# Altium schematic symbol library WE-LQSH.SchLib: 28 symbols
Pins are listed as number, name and electrical type; pins without a type are passive.

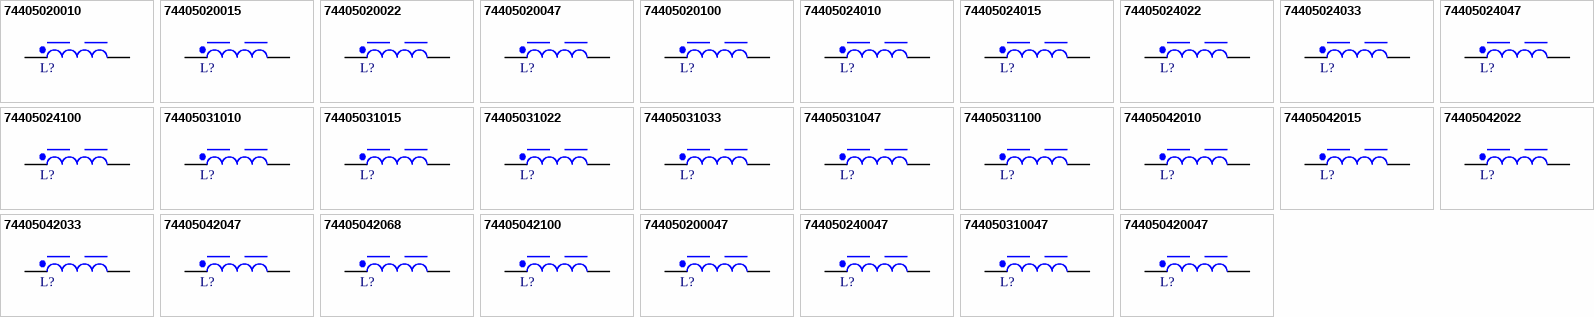
[diagram p0: symbols 74405020010 to 744050420047]

## 74405020010
designator L?, comment 1µH, 1.65A  (value not drawn)
WE-LQSH SMT High Saturation Power Inductor, size 2010, 1µH, 1.65A, 90mΩ; Manufacturer Part Number: 74405020010; Manufacturer: Wurth Elektronik; Case/Size Code: 2010; DC Resistance: 75mΩ; Peak Voltage: 25V; Saturation Current: 3.85A; Self Resonant Frequency: 84MHz; Category: Shielded Power Inductors; Match Code: WE-LQSH; ComponentLink1Description: Website Link; ComponentLink1URL: https://www.we-online.com/redexpert/article/74405020010?ad; ComponentLink2Description: Datasheet Link; ComponentLink2URL: https://www.we-online.com/redexpert/spec/74405020010?ad; Mount: Surface Mount; Operating Temperature Max: 125°C; Operating Temperature Min: -40°C; Packaging: Tape and Reel; Length: 2mm; Width: 1.6mm; Height: 1mm; DC Resistance Max: 90mΩ; Inductance: 1µH; Rated Current: 1.65A
footprint WE-LQSH_2010
simulation model 2010_74405020010_1u
pins: 1, 2

## 74405020015
designator L?, comment 1.5µH, 1.4A  (value not drawn)
WE-LQSH SMT High Saturation Power Inductor, size 2010, 1.5µH, 1.4A, 132mΩ; Manufacturer Part Number: 74405020015; Manufacturer: Wurth Elektronik; Case/Size Code: 2010; DC Resistance: 110mΩ; Peak Voltage: 25V; Saturation Current: 2.3A; Self Resonant Frequency: 74MHz; Category: Shielded Power Inductors; Match Code: WE-LQSH; ComponentLink1Description: Website Link; ComponentLink1URL: https://www.we-online.com/redexpert/article/74405020015?ad; ComponentLink2Description: Datasheet Link; ComponentLink2URL: https://www.we-online.com/redexpert/spec/74405020015?ad; Mount: Surface Mount; Operating Temperature Max: 125°C; Operating Temperature Min: -40°C; Packaging: Tape and Reel; Length: 2mm; Width: 1.6mm; Height: 1mm; DC Resistance Max: 132mΩ; Inductance: 1.5µH; Rated Current: 1.4A
footprint WE-LQSH_2010
simulation model 2010_74405020015_1.5u
pins: 1, 2

## 74405020022
designator L?, comment 2.2µH, 1.25A  (value not drawn)
WE-LQSH SMT High Saturation Power Inductor, size 2010, 2.2µH, 1.25A, 170mΩ; Manufacturer Part Number: 74405020022; Manufacturer: Wurth Elektronik; Case/Size Code: 2010; DC Resistance: 142mΩ; Peak Voltage: 25V; Saturation Current: 2.15A; Self Resonant Frequency: 53MHz; Category: Shielded Power Inductors; Match Code: WE-LQSH; ComponentLink1Description: Website Link; ComponentLink1URL: https://www.we-online.com/redexpert/article/74405020022?ad; ComponentLink2Description: Datasheet Link; ComponentLink2URL: https://www.we-online.com/redexpert/spec/74405020022?ad; Mount: Surface Mount; Operating Temperature Max: 125°C; Operating Temperature Min: -40°C; Packaging: Tape and Reel; Length: 2mm; Width: 1.6mm; Height: 1mm; DC Resistance Max: 170mΩ; Inductance: 2.2µH; Rated Current: 1.25A
footprint WE-LQSH_2010
simulation model 2010_74405020022_2.5u
pins: 1, 2

## 74405020047
designator L?, comment 4.7µH, 0.8A  (value not drawn)
WE-LQSH SMT High Saturation Power Inductor, size 2010, 4.7µH, 0.8A, 444mΩ; Manufacturer Part Number: 74405020047; Manufacturer: Wurth Elektronik; Case/Size Code: 2010; DC Resistance: 370mΩ; Peak Voltage: 25V; Saturation Current: 1.5A; Self Resonant Frequency: 35MHz; Category: Shielded Power Inductors; Match Code: WE-LQSH; ComponentLink1Description: Website Link; ComponentLink1URL: https://www.we-online.com/redexpert/article/74405020047?ad; ComponentLink2Description: Datasheet Link; ComponentLink2URL: https://www.we-online.com/redexpert/spec/74405020047?ad; Mount: Surface Mount; Operating Temperature Max: 125°C; Operating Temperature Min: -40°C; Packaging: Tape and Reel; Length: 2mm; Width: 1.6mm; Height: 1mm; DC Resistance Max: 444mΩ; Inductance: 4.7µH; Rated Current: 0.8A
footprint WE-LQSH_2010
simulation model 2010_74405020047_4.7u
pins: 1, 2

## 74405020100
designator L?, comment 10µH, 0.58A  (value not drawn)
WE-LQSH SMT High Saturation Power Inductor, size 2010, 10µH, 0.58A, 816mΩ; Manufacturer Part Number: 74405020100; Manufacturer: Wurth Elektronik; Case/Size Code: 2010; DC Resistance: 680mΩ; Peak Voltage: 25V; Saturation Current: 0.95A; Self Resonant Frequency: 22MHz; Category: Shielded Power Inductors; Match Code: WE-LQSH; ComponentLink1Description: Website Link; ComponentLink1URL: https://www.we-online.com/redexpert/article/74405020100?ad; ComponentLink2Description: Datasheet Link; ComponentLink2URL: https://www.we-online.com/redexpert/spec/74405020100?ad; Mount: Surface Mount; Operating Temperature Max: 125°C; Operating Temperature Min: -40°C; Packaging: Tape and Reel; Length: 2mm; Width: 1.6mm; Height: 1mm; DC Resistance Max: 816mΩ; Inductance: 10µH; Rated Current: 0.58A
footprint WE-LQSH_2010
simulation model 2010_74405020100_10u
pins: 1, 2

## 74405024010
designator L?, comment 1µH, 2.35A  (value not drawn)
WE-LQSH SMT High Saturation Power Inductor, size 2512, 1µH, 2.35A, 58mΩ; Manufacturer Part Number: 74405024010; Manufacturer: Wurth Elektronik; Case/Size Code: 2512; DC Resistance: 48mΩ; Peak Voltage: 25V; Saturation Current: 4.2A; Self Resonant Frequency: 87MHz; Category: Shielded Power Inductors; Match Code: WE-LQSH; ComponentLink1Description: Website Link; ComponentLink1URL: https://www.we-online.com/redexpert/article/74405024010?ad; ComponentLink2Description: Datasheet Link; ComponentLink2URL: https://www.we-online.com/redexpert/spec/74405024010?ad; Mount: Surface Mount; Operating Temperature Max: 125°C; Operating Temperature Min: -40°C; Packaging: Tape and Reel; Length: 2.5mm; Width: 2mm; Height: 1.2mm; DC Resistance Max: 58mΩ; Inductance: 1µH; Rated Current: 2.35A
footprint WE-LQSH_2512
simulation model 2512_74405024010_1u
pins: 1, 2

## 74405024015
designator L?, comment 1.5µH, 2.1A  (value not drawn)
WE-LQSH SMT High Saturation Power Inductor, size 2512, 1.5µH, 2.1A, 72mΩ; Manufacturer Part Number: 74405024015; Manufacturer: Wurth Elektronik; Case/Size Code: 2512; DC Resistance: 60mΩ; Peak Voltage: 25V; Saturation Current: 3.5A; Self Resonant Frequency: 68MHz; Category: Shielded Power Inductors; Match Code: WE-LQSH; ComponentLink1Description: Website Link; ComponentLink1URL: https://www.we-online.com/redexpert/article/74405024015?ad; ComponentLink2Description: Datasheet Link; ComponentLink2URL: https://www.we-online.com/redexpert/spec/74405024015?ad; Mount: Surface Mount; Operating Temperature Max: 125°C; Operating Temperature Min: -40°C; Packaging: Tape and Reel; Length: 2.5mm; Width: 2mm; Height: 1.2mm; DC Resistance Max: 72mΩ; Inductance: 1.5µH; Rated Current: 2.1A
footprint WE-LQSH_2512
simulation model 2512_74405024015_1.5u
pins: 1, 2

## 74405024022
designator L?, comment 2.2µH, 1.6A  (value not drawn)
WE-LQSH SMT High Saturation Power Inductor, size 2512, 2.2µH, 1.6A, 120mΩ; Manufacturer Part Number: 74405024022; Manufacturer: Wurth Elektronik; Case/Size Code: 2512; DC Resistance: 100mΩ; Peak Voltage: 25V; Saturation Current: 3A; Self Resonant Frequency: 46MHz; Category: Shielded Power Inductors; Match Code: WE-LQSH; ComponentLink1Description: Website Link; ComponentLink1URL: https://www.we-online.com/redexpert/article/74405024022?ad; ComponentLink2Description: Datasheet Link; ComponentLink2URL: https://www.we-online.com/redexpert/spec/74405024022?ad; Mount: Surface Mount; Operating Temperature Max: 125°C; Operating Temperature Min: -40°C; Packaging: Tape and Reel; Length: 2.5mm; Width: 2mm; Height: 1.2mm; DC Resistance Max: 120mΩ; Inductance: 2.2µH; Rated Current: 1.6A
footprint WE-LQSH_2512
simulation model 2512_74405024022_2.2u
pins: 1, 2

## 74405024033
designator L?, comment 3.3µH, 1.3A  (value not drawn)
WE-LQSH SMT High Saturation Power Inductor, size 2512, 3.3µH, 1.3A, 163mΩ; Manufacturer Part Number: 74405024033; Manufacturer: Wurth Elektronik; Case/Size Code: 2512; DC Resistance: 136mΩ; Peak Voltage: 25V; Saturation Current: 2.1A; Self Resonant Frequency: 37MHz; Category: Shielded Power Inductors; Match Code: WE-LQSH; ComponentLink1Description: Website Link; ComponentLink1URL: https://www.we-online.com/redexpert/article/74405024033?ad; ComponentLink2Description: Datasheet Link; ComponentLink2URL: https://www.we-online.com/redexpert/spec/74405024033?ad; Mount: Surface Mount; Operating Temperature Max: 125°C; Operating Temperature Min: -40°C; Packaging: Tape and Reel; Length: 2.5mm; Width: 2mm; Height: 1.2mm; DC Resistance Max: 163mΩ; Inductance: 3.3µH; Rated Current: 1.3A
footprint WE-LQSH_2512
simulation model 2512_74405024033_3.3u
pins: 1, 2

## 74405024047
designator L?, comment 4.7µH, 1A  (value not drawn)
WE-LQSH SMT High Saturation Power Inductor, size 2512, 4.7µH, 1A, 270mΩ; Manufacturer Part Number: 74405024047; Manufacturer: Wurth Elektronik; Case/Size Code: 2512; DC Resistance: 225mΩ; Peak Voltage: 25V; Saturation Current: 1.9A; Self Resonant Frequency: 30MHz; Category: Shielded Power Inductors; Match Code: WE-LQSH; ComponentLink1Description: Website Link; ComponentLink1URL: https://www.we-online.com/redexpert/article/74405024047?ad; ComponentLink2Description: Datasheet Link; ComponentLink2URL: https://www.we-online.com/redexpert/spec/74405024047?ad; Mount: Surface Mount; Operating Temperature Max: 125°C; Operating Temperature Min: -40°C; Packaging: Tape and Reel; Length: 2.5mm; Width: 2mm; Height: 1.2mm; DC Resistance Max: 270mΩ; Inductance: 4.7µH; Rated Current: 1A
footprint WE-LQSH_2512
simulation model 2512_74405024047_4.7u
pins: 1, 2

## 74405024100
designator L?, comment 10µH, 0.8A  (value not drawn)
WE-LQSH SMT High Saturation Power Inductor, size 2512, 10µH, 0.8A, 522mΩ; Manufacturer Part Number: 74405024100; Manufacturer: Wurth Elektronik; Case/Size Code: 2512; DC Resistance: 435mΩ; Peak Voltage: 25V; Saturation Current: 1.2A; Self Resonant Frequency: 20MHz; Category: Shielded Power Inductors; Match Code: WE-LQSH; ComponentLink1Description: Website Link; ComponentLink1URL: https://www.we-online.com/redexpert/article/74405024100?ad; ComponentLink2Description: Datasheet Link; ComponentLink2URL: https://www.we-online.com/redexpert/spec/74405024100?ad; Mount: Surface Mount; Operating Temperature Max: 125°C; Operating Temperature Min: -40°C; Packaging: Tape and Reel; Length: 2.5mm; Width: 2mm; Height: 1.2mm; DC Resistance Max: 522mΩ; Inductance: 10µH; Rated Current: 0.8A
footprint WE-LQSH_2512
simulation model 2512_74405024100_10u
pins: 1, 2

## 74405031010
designator L?, comment 1µH, 2.4A  (value not drawn)
WE-LQSH SMT High Saturation Power Inductor, size 3012, 1µH, 2.4A, 54mΩ; Manufacturer Part Number: 74405031010; Manufacturer: Wurth Elektronik; Case/Size Code: 3012; DC Resistance: 45mΩ; Peak Voltage: 25V; Saturation Current: 5.4A; Self Resonant Frequency: 66MHz; Category: Shielded Power Inductors; Match Code: WE-LQSH; ComponentLink1Description: Website Link; ComponentLink1URL: https://www.we-online.com/redexpert/article/74405031010?ad; ComponentLink2Description: Datasheet Link; ComponentLink2URL: https://www.we-online.com/redexpert/spec/74405031010?ad; Mount: Surface Mount; Operating Temperature Max: 125°C; Operating Temperature Min: -40°C; Packaging: Tape and Reel; Length: 3mm; Width: 3mm; Height: 1.2mm; DC Resistance Max: 54mΩ; Inductance: 1µH; Rated Current: 2.4A
footprint WE-LQSH_3012
simulation model 3012_74405031010_1u
pins: 1, 2

## 74405031015
designator L?, comment 1.5µH, 2.2A  (value not drawn)
WE-LQSH SMT High Saturation Power Inductor, size 3012, 1.5µH, 2.2A, 77mΩ; Manufacturer Part Number: 74405031015; Manufacturer: Wurth Elektronik; Case/Size Code: 3012; DC Resistance: 64mΩ; Peak Voltage: 25V; Saturation Current: 4.1A; Self Resonant Frequency: 60MHz; Category: Shielded Power Inductors; Match Code: WE-LQSH; ComponentLink1Description: Website Link; ComponentLink1URL: https://www.we-online.com/redexpert/article/74405031015?ad; ComponentLink2Description: Datasheet Link; ComponentLink2URL: https://www.we-online.com/redexpert/spec/74405031015?ad; Mount: Surface Mount; Operating Temperature Max: 125°C; Operating Temperature Min: -40°C; Packaging: Tape and Reel; Length: 3mm; Width: 3mm; Height: 1.2mm; DC Resistance Max: 77mΩ; Inductance: 1.5µH; Rated Current: 2.2A
footprint WE-LQSH_3012
simulation model 3012_74405031015_1.5u
pins: 1, 2

## 74405031022
designator L?, comment 2.2µH, 1.75A  (value not drawn)
WE-LQSH SMT High Saturation Power Inductor, size 3012, 2.2µH, 1.75A, 108mΩ; Manufacturer Part Number: 74405031022; Manufacturer: Wurth Elektronik; Case/Size Code: 3012; DC Resistance: 90mΩ; Peak Voltage: 25V; Saturation Current: 3.35A; Self Resonant Frequency: 46MHz; Category: Shielded Power Inductors; Match Code: WE-LQSH; ComponentLink1Description: Website Link; ComponentLink1URL: https://www.we-online.com/redexpert/article/74405031022?ad; ComponentLink2Description: Datasheet Link; ComponentLink2URL: https://www.we-online.com/redexpert/spec/74405031022?ad; Mount: Surface Mount; Operating Temperature Max: 125°C; Operating Temperature Min: -40°C; Packaging: Tape and Reel; Length: 3mm; Width: 3mm; Height: 1.2mm; DC Resistance Max: 108mΩ; Inductance: 2.2µH; Rated Current: 1.75A
footprint WE-LQSH_3012
simulation model 3012_74405031022_2.2u
pins: 1, 2

## 74405031033
designator L?, comment 3.3µH, 1.55A  (value not drawn)
WE-LQSH SMT High Saturation Power Inductor, size 3012, 3.3µH, 1.55A, 155mΩ; Manufacturer Part Number: 74405031033; Manufacturer: Wurth Elektronik; Case/Size Code: 3012; DC Resistance: 129mΩ; Peak Voltage: 25V; Saturation Current: 2.6A; Self Resonant Frequency: 39MHz; Category: Shielded Power Inductors; Match Code: WE-LQSH; ComponentLink1Description: Website Link; ComponentLink1URL: https://www.we-online.com/redexpert/article/74405031033?ad; ComponentLink2Description: Datasheet Link; ComponentLink2URL: https://www.we-online.com/redexpert/spec/74405031033?ad; Mount: Surface Mount; Operating Temperature Max: 125°C; Operating Temperature Min: -40°C; Packaging: Tape and Reel; Length: 3mm; Width: 3mm; Height: 1.2mm; DC Resistance Max: 155mΩ; Inductance: 3.3µH; Rated Current: 1.55A
footprint WE-LQSH_3012
simulation model 3012_74405031033_3.3u
pins: 1, 2

## 74405031047
designator L?, comment 4.7µH, 1.2A  (value not drawn)
WE-LQSH SMT High Saturation Power Inductor, size 3012, 4.7µH, 1.2A, 235mΩ; Manufacturer Part Number: 74405031047; Manufacturer: Wurth Elektronik; Case/Size Code: 3012; DC Resistance: 196mΩ; Peak Voltage: 25V; Saturation Current: 2.5A; Self Resonant Frequency: 30MHz; Category: Shielded Power Inductors; Match Code: WE-LQSH; ComponentLink1Description: Website Link; ComponentLink1URL: https://www.we-online.com/redexpert/article/74405031047?ad; ComponentLink2Description: Datasheet Link; ComponentLink2URL: https://www.we-online.com/redexpert/spec/74405031047?ad; Mount: Surface Mount; Operating Temperature Max: 125°C; Operating Temperature Min: -40°C; Packaging: Tape and Reel; Length: 3mm; Width: 3mm; Height: 1.2mm; DC Resistance Max: 235mΩ; Inductance: 4.7µH; Rated Current: 1.2A
footprint WE-LQSH_3012
simulation model 3012_74405031047_4.7u
pins: 1, 2

## 74405031100
designator L?, comment 10µH, 0.85A  (value not drawn)
WE-LQSH SMT High Saturation Power Inductor, size 3012, 10µH, 0.85A, 474mΩ; Manufacturer Part Number: 74405031100; Manufacturer: Wurth Elektronik; Case/Size Code: 3012; DC Resistance: 395mΩ; Peak Voltage: 25V; Saturation Current: 1.45A; Self Resonant Frequency: 21MHz; Category: Shielded Power Inductors; Match Code: WE-LQSH; ComponentLink1Description: Website Link; ComponentLink1URL: https://www.we-online.com/redexpert/article/74405031100?ad; ComponentLink2Description: Datasheet Link; ComponentLink2URL: https://www.we-online.com/redexpert/spec/74405031100?ad; Mount: Surface Mount; Operating Temperature Max: 125°C; Operating Temperature Min: -40°C; Packaging: Tape and Reel; Length: 3mm; Width: 3mm; Height: 1.2mm; DC Resistance Max: 474mΩ; Inductance: 10µH; Rated Current: 0.85A
footprint WE-LQSH_3012
simulation model 3012_74405031100_10u
pins: 1, 2

## 74405042010
designator L?, comment 1µH, 4A  (value not drawn)
WE-LQSH SMT High Saturation Power Inductor, size 4020, 1µH, 4A, 26mΩ; Manufacturer Part Number: 74405042010; Manufacturer: Wurth Elektronik; Case/Size Code: 4020; DC Resistance: 22mΩ; Peak Voltage: 25V; Saturation Current: 9.5A; Self Resonant Frequency: 55MHz; Category: Shielded Power Inductors; Match Code: WE-LQSH; ComponentLink1Description: Website Link; ComponentLink1URL: https://www.we-online.com/redexpert/article/74405042010?ad; ComponentLink2Description: Datasheet Link; ComponentLink2URL: https://www.we-online.com/redexpert/spec/74405042010?ad; Mount: Surface Mount; Operating Temperature Max: 125°C; Operating Temperature Min: -40°C; Packaging: Tape and Reel; Length: 4mm; Width: 4mm; Height: 2mm; DC Resistance Max: 26mΩ; Inductance: 1µH; Rated Current: 4A
footprint WE-LQSH_4020
simulation model 4020_74405042010_1u
pins: 1, 2

## 74405042015
designator L?, comment 1.5µH, 3.2A  (value not drawn)
WE-LQSH SMT High Saturation Power Inductor, size 4020, 1.5µH, 3.2A, 36mΩ; Manufacturer Part Number: 74405042015; Manufacturer: Wurth Elektronik; Case/Size Code: 4020; DC Resistance: 30mΩ; Peak Voltage: 25V; Saturation Current: 8.7A; Self Resonant Frequency: 45MHz; Category: Shielded Power Inductors; Match Code: WE-LQSH; ComponentLink1Description: Website Link; ComponentLink1URL: https://www.we-online.com/redexpert/article/74405042015?ad; ComponentLink2Description: Datasheet Link; ComponentLink2URL: https://www.we-online.com/redexpert/spec/74405042015?ad; Mount: Surface Mount; Operating Temperature Max: 125°C; Operating Temperature Min: -40°C; Packaging: Tape and Reel; Length: 4mm; Width: 4mm; Height: 2mm; DC Resistance Max: 36mΩ; Inductance: 1.5µH; Rated Current: 3.2A
footprint WE-LQSH_4020
simulation model 4020_74405042015_1.5u
pins: 1, 2

## 74405042022
designator L?, comment 2.2µH, 2.6A  (value not drawn)
WE-LQSH SMT High Saturation Power Inductor, size 4020, 2.2µH, 2.6A, 48mΩ; Manufacturer Part Number: 74405042022; Manufacturer: Wurth Elektronik; Case/Size Code: 4020; DC Resistance: 40mΩ; Peak Voltage: 25V; Saturation Current: 7.6A; Self Resonant Frequency: 33MHz; Category: Shielded Power Inductors; Match Code: WE-LQSH; ComponentLink1Description: Website Link; ComponentLink1URL: https://www.we-online.com/redexpert/article/74405042022?ad; ComponentLink2Description: Datasheet Link; ComponentLink2URL: https://www.we-online.com/redexpert/spec/74405042022?ad; Mount: Surface Mount; Operating Temperature Max: 125°C; Operating Temperature Min: -40°C; Packaging: Tape and Reel; Length: 4mm; Width: 4mm; Height: 2mm; DC Resistance Max: 48mΩ; Inductance: 2.2µH; Rated Current: 2.6A
footprint WE-LQSH_4020
simulation model 4020_74405042022_2.2u
pins: 1, 2

## 74405042033
designator L?, comment 3.3µH, 2.3A  (value not drawn)
WE-LQSH SMT High Saturation Power Inductor, size 4020, 3.3µH, 2.3A, 72mΩ; Manufacturer Part Number: 74405042033; Manufacturer: Wurth Elektronik; Case/Size Code: 4020; DC Resistance: 60mΩ; Peak Voltage: 25V; Saturation Current: 5.9A; Self Resonant Frequency: 27MHz; Category: Shielded Power Inductors; Match Code: WE-LQSH; ComponentLink1Description: Website Link; ComponentLink1URL: https://www.we-online.com/redexpert/article/74405042033?ad; ComponentLink2Description: Datasheet Link; ComponentLink2URL: https://www.we-online.com/redexpert/spec/74405042033?ad; Mount: Surface Mount; Operating Temperature Max: 125°C; Operating Temperature Min: -40°C; Packaging: Tape and Reel; Length: 4mm; Width: 4mm; Height: 2mm; DC Resistance Max: 72mΩ; Inductance: 3.3µH; Rated Current: 2.3A
footprint WE-LQSH_4020
simulation model 4020_74405042033_3.3u
pins: 1, 2

## 74405042047
designator L?, comment 4.7µH, 2.1A  (value not drawn)
WE-LQSH SMT High Saturation Power Inductor, size 4020, 4.7µH, 2.1A, 108mΩ; Manufacturer Part Number: 74405042047; Manufacturer: Wurth Elektronik; Case/Size Code: 4020; DC Resistance: 90mΩ; Peak Voltage: 25V; Saturation Current: 4.9A; Self Resonant Frequency: 25MHz; Category: Shielded Power Inductors; Match Code: WE-LQSH; ComponentLink1Description: Website Link; ComponentLink1URL: https://www.we-online.com/redexpert/article/74405042047?ad; ComponentLink2Description: Datasheet Link; ComponentLink2URL: https://www.we-online.com/redexpert/spec/74405042047?ad; Mount: Surface Mount; Operating Temperature Max: 125°C; Operating Temperature Min: -40°C; Packaging: Tape and Reel; Length: 4mm; Width: 4mm; Height: 2mm; DC Resistance Max: 108mΩ; Inductance: 4.7µH; Rated Current: 2.1A
footprint WE-LQSH_4020
simulation model 4020_74405042047_4.7u
pins: 1, 2

## 74405042068
designator L?, comment 6.8µH, 1.9A  (value not drawn)
WE-LQSH SMT High Saturation Power Inductor, size 4020, 6.8µH, 1.9A, 156mΩ; Manufacturer Part Number: 74405042068; Manufacturer: Wurth Elektronik; Case/Size Code: 4020; DC Resistance: 130mΩ; Peak Voltage: 25V; Saturation Current: 4.2A; Self Resonant Frequency: 19MHz; Category: Shielded Power Inductors; Match Code: WE-LQSH; ComponentLink1Description: Website Link; ComponentLink1URL: https://www.we-online.com/redexpert/article/74405042068?ad; ComponentLink2Description: Datasheet Link; ComponentLink2URL: https://www.we-online.com/redexpert/spec/74405042068?ad; Mount: Surface Mount; Operating Temperature Max: 125°C; Operating Temperature Min: -40°C; Packaging: Tape and Reel; Length: 4mm; Width: 4mm; Height: 2mm; DC Resistance Max: 156mΩ; Inductance: 6.8µH; Rated Current: 1.9A
footprint WE-LQSH_4020
simulation model 4020_74405042068_6.8u
pins: 1, 2

## 74405042100
designator L?, comment 10µH, 1.7A  (value not drawn)
WE-LQSH SMT High Saturation Power Inductor, size 4020, 10µH, 1.7A, 216mΩ; Manufacturer Part Number: 74405042100; Manufacturer: Wurth Elektronik; Case/Size Code: 4020; DC Resistance: 180mΩ; Peak Voltage: 25V; Saturation Current: 3.5A; Self Resonant Frequency: 16MHz; Category: Shielded Power Inductors; Match Code: WE-LQSH; ComponentLink1Description: Website Link; ComponentLink1URL: https://www.we-online.com/redexpert/article/74405042100?ad; ComponentLink2Description: Datasheet Link; ComponentLink2URL: https://www.we-online.com/redexpert/spec/74405042100?ad; Mount: Surface Mount; Operating Temperature Max: 125°C; Operating Temperature Min: -40°C; Packaging: Tape and Reel; Length: 4mm; Width: 4mm; Height: 2mm; DC Resistance Max: 216mΩ; Inductance: 10µH; Rated Current: 1.7A
footprint WE-LQSH_4020
simulation model 4020_74405042100_10u
pins: 1, 2

## 744050200047
designator L?, comment 0.47µH, 2.2A  (value not drawn)
WE-LQSH SMT High Saturation Power Inductor, size 2010, 0.47µH, 2.2A, 49mΩ; Manufacturer Part Number: 744050200047; Manufacturer: Wurth Elektronik; Case/Size Code: 2010; DC Resistance: 41mΩ; Peak Voltage: 25V; Saturation Current: 4.7A; Self Resonant Frequency: 159MHz; Category: Shielded Power Inductors; Match Code: WE-LQSH; ComponentLink1Description: Website Link; ComponentLink1URL: https://www.we-online.com/redexpert/article/744050200047?ad; ComponentLink2Description: Datasheet Link; ComponentLink2URL: https://www.we-online.com/redexpert/spec/744050200047?ad; Mount: Surface Mount; Operating Temperature Max: 125°C; Operating Temperature Min: -40°C; Packaging: Tape and Reel; Length: 2mm; Width: 1.6mm; Height: 1mm; DC Resistance Max: 49mΩ; Inductance: 0.47µH; Rated Current: 2.2A
footprint WE-LQSH_2010
simulation model 2010_744050200047_0.47u
pins: 1, 2

## 744050240047
designator L?, comment 0.47µH, 2.9A  (value not drawn)
WE-LQSH SMT High Saturation Power Inductor, size 2512, 0.47µH, 2.9A, 35mΩ; Manufacturer Part Number: 744050240047; Manufacturer: Wurth Elektronik; Case/Size Code: 2512; DC Resistance: 29mΩ; Peak Voltage: 25V; Saturation Current: 5.6A; Self Resonant Frequency: 129MHz; Category: Shielded Power Inductors; Match Code: WE-LQSH; ComponentLink1Description: Website Link; ComponentLink1URL: https://www.we-online.com/redexpert/article/744050240047?ad; ComponentLink2Description: Datasheet Link; ComponentLink2URL: https://www.we-online.com/redexpert/spec/744050240047?ad; Mount: Surface Mount; Operating Temperature Max: 125°C; Operating Temperature Min: -40°C; Packaging: Tape and Reel; Length: 2.5mm; Width: 2mm; Height: 1.2mm; DC Resistance Max: 35mΩ; Inductance: 0.47µH; Rated Current: 2.9A
footprint WE-LQSH_2512
simulation model 2512_744050240047_0.47u
pins: 1, 2

## 744050310047
designator L?, comment 0.47µH, 3.15A  (value not drawn)
WE-LQSH SMT High Saturation Power Inductor, size 3012, 0.47µH, 3.15A, 34mΩ; Manufacturer Part Number: 744050310047; Manufacturer: Wurth Elektronik; Case/Size Code: 3012; DC Resistance: 28mΩ; Peak Voltage: 25V; Saturation Current: 8A; Self Resonant Frequency: 121MHz; Category: Shielded Power Inductors; Match Code: WE-LQSH; ComponentLink1Description: Website Link; ComponentLink1URL: https://www.we-online.com/redexpert/article/744050310047?ad; ComponentLink2Description: Datasheet Link; ComponentLink2URL: https://www.we-online.com/redexpert/spec/744050310047?ad; Mount: Surface Mount; Operating Temperature Max: 125°C; Operating Temperature Min: -40°C; Packaging: Tape and Reel; Length: 3mm; Width: 3mm; Height: 1.2mm; DC Resistance Max: 34mΩ; Inductance: 0.47µH; Rated Current: 3.15A
footprint WE-LQSH_3012
simulation model 3012_744050310047_0.47u
pins: 1, 2

## 744050420047
designator L?, comment 0.47µH, 4.5A  (value not drawn)
WE-LQSH SMT High Saturation Power Inductor, size 4020, 0.47µH, 4.5A, 22mΩ; Manufacturer Part Number: 744050420047; Manufacturer: Wurth Elektronik; Case/Size Code: 4020; DC Resistance: 18mΩ; Peak Voltage: 25V; Saturation Current: 15.5A; Self Resonant Frequency: 89MHz; Category: Shielded Power Inductors; Match Code: WE-LQSH; ComponentLink1Description: Website Link; ComponentLink1URL: https://www.we-online.com/redexpert/article/744050420047?ad; ComponentLink2Description: Datasheet Link; ComponentLink2URL: https://www.we-online.com/redexpert/spec/744050420047?ad; Mount: Surface Mount; Operating Temperature Max: 125°C; Operating Temperature Min: -40°C; Packaging: Tape and Reel; Length: 4mm; Width: 4mm; Height: 2mm; DC Resistance Max: 22mΩ; Inductance: 0.47µH; Rated Current: 4.5A
footprint WE-LQSH_4020
simulation model 4020_744050420047_0.47u
pins: 1, 2